# Altium schematic symbol library IRG4BC10UD.Schlib: 1 symbol
Pins are listed as number, name and electrical type; pins without a type are passive.

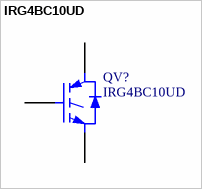
[diagram p0: symbol IRG4BC10UD]

## IRG4BC10UD
designator QV?
Insulated Gate Bipolar Transistor with Ultrafast Soft Recovery Diode
pins: 1 G, 2 C, 3 E